# Altium footprint library SamacSys.PcbLib: 6 footprints
Each footprint in its own frame and in the unit in brackets; x right, y up, seen from the top. Pads: shape width x height; smd on the part's side, far side on the other; paste and mask are expansions set on the pad; w line width, h text height; cw(c..) or ccw(c..) is an arc to the next point about the centre after c.
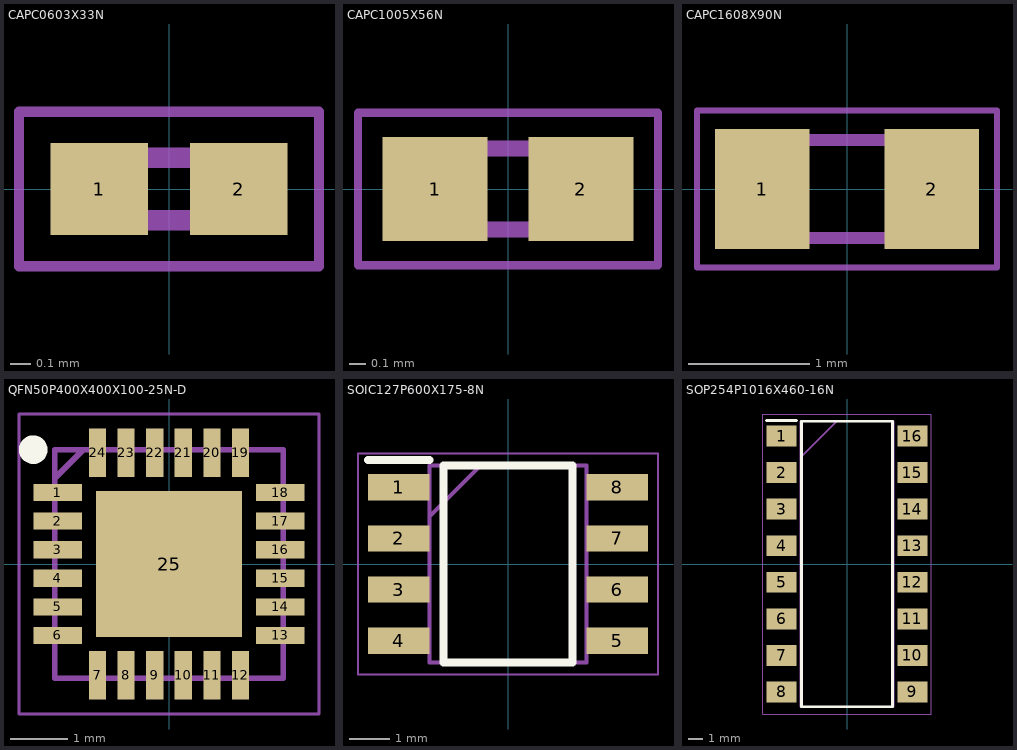
[diagram p0: the footprints below, top view; thin cyan lines are the x and y axes]

## CAPC0603X33N [mm]
pads (2):
  rect 0.47x0.44 smd: 1(-0.335,0) 2(0.335,0)
Mechanical 13:
  lines w0.1: -0.3,-0.15 -0.3,0.15 0.3,0.15 0.3,-0.15 -0.3,-0.15
Mechanical 15:
  lines w0.05: -0.72,-0.37 -0.72,0.37 0.72,0.37 0.72,-0.37 -0.72,-0.37
3D body "02013C103JAT2A.stp": height 0.33, standoff 0, extent -0.3,-0.15 0.3,0.15

## CAPC1005X56N [mm]
pads (2):
  rect 0.65x0.64 smd: 1(-0.45,0) 2(0.45,0)
Mechanical 13:
  lines w0.1: -0.5,-0.25 -0.5,0.25 0.5,0.25 0.5,-0.25 -0.5,-0.25
Mechanical 15:
  lines w0.05: -0.925,-0.47 -0.925,0.47 0.925,0.47 0.925,-0.47 -0.925,-0.47
3D body "0402ZD225MAT2A.stp": height 0.56, standoff 0, extent -0.5,-0.25 0.5,0.25

## CAPC1608X90N [mm]
pads (2):
  rect 0.78x0.99 smd: 1(-0.7,0) 2(0.7,0)
Mechanical 13:
  lines w0.1: -0.8,-0.405 -0.8,0.405 0.8,0.405 0.8,-0.405 -0.8,-0.405
Mechanical 15:
  lines w0.05: -1.24,-0.65 -1.24,0.65 1.24,0.65 1.24,-0.65 -1.24,-0.65
3D body "06031C103K4T2A.stp": height 0.9, standoff 0, extent -0.8,-0.405 0.8,0.405

## QFN50P400X400X100-25N-D [mm]
pads (25):
  rect 0.85x0.3 smd: 1(-1.95,1.25) 2(-1.95,0.75) 3(-1.95,0.25) 4(-1.95,-0.25) 5(-1.95,-0.75) 6(-1.95,-1.25) 13(1.95,-1.25) 14(1.95,-0.75) 15(1.95,-0.25) 16(1.95,0.25) 17(1.95,0.75) 18(1.95,1.25)
  rect 0.3x0.85 smd: 7(-1.25,-1.95) 8(-0.75,-1.95) 9(-0.25,-1.95) 10(0.25,-1.95) 11(0.75,-1.95) 12(1.25,-1.95) 19(1.25,1.95) 20(0.75,1.95) 21(0.25,1.95) 22(-0.25,1.95) 23(-0.75,1.95) 24(-1.25,1.95)
  rect 2.55x2.55 smd: 25(0,0)
Top Overlay:
  circle w0.25: c-2.375,2 r0.125
Mechanical 13:
  lines w0.1: -2,1.5 -1.5,2 ; -2,-2 2,-2 2,2 -2,2 -2,-2
Mechanical 15:
  lines w0.05: -2.625,-2.625 2.625,-2.625 2.625,2.625 -2.625,2.625 -2.625,-2.625
3D body "DRV8834RGET.stp": height 1, standoff 0, extent -2.05,-2.05 2.05,2.05

## SOIC127P600X175-8N [mm]
pads (8):
  rect 1.525x0.65 smd: 1(-2.712,1.905) 2(-2.712,0.635) 3(-2.712,-0.635) 4(-2.712,-1.905) 5(2.712,-1.905) 6(2.712,-0.635) 7(2.712,0.635) 8(2.712,1.905)
Top Overlay:
  lines w0.2: -3.475,2.58 -1.95,2.58 ; -1.6,-2.45 -1.6,2.45 1.6,2.45 1.6,-2.45 -1.6,-2.45
Mechanical 13:
  lines w0.1: -1.95,1.18 -0.68,2.45 ; -1.95,-2.45 -1.95,2.45 1.95,2.45 1.95,-2.45 -1.95,-2.45
Mechanical 15:
  lines w0.05: -3.725,-2.75 -3.725,2.75 3.725,2.75 3.725,-2.75 -3.725,-2.75
3D body "NE555DR.stp": height 1.75, standoff 0, extent -3,-2.45 3,2.45

## SOP254P1016X460-16N [mm]
pads (16):
  rect 2.1x1.45 smd: 1(-4.55,8.89) 2(-4.55,6.35) 3(-4.55,3.81) 4(-4.55,1.27) 5(-4.55,-1.27) 6(-4.55,-3.81) 7(-4.55,-6.35) 8(-4.55,-8.89) 9(4.55,-8.89) 10(4.55,-6.35) 11(4.55,-3.81) 12(4.55,-1.27) 13(4.55,1.27) 14(4.55,3.81) 15(4.55,6.35) 16(4.55,8.89)
Top Overlay:
  lines w0.2: -5.6,9.965 -3.5,9.965 ; -3.15,-9.92 -3.15,9.92 3.15,9.92 3.15,-9.92 -3.15,-9.92
Mechanical 13:
  lines w0.1: -3.25,7.38 -0.71,9.92 ; -3.25,-9.92 -3.25,9.92 3.25,9.92 3.25,-9.92 -3.25,-9.92
Mechanical 15:
  lines w0.05: -5.85,-10.42 -5.85,10.42 5.85,10.42 5.85,-10.42 -5.85,-10.42
3D body "ACPL-847-300E.stp": height 4.6, standoff 0, extent -5.08,-9.92 5.08,9.92